# Altium schematic symbol library TE Connectivity.SchLib: 10 symbols
Pins are listed as number, name and electrical type; pins without a type are passive.

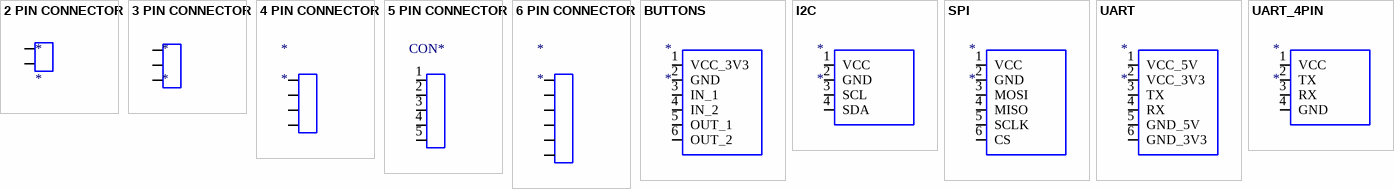
[diagram p0: symbols 2 PIN CONNECTOR to UART_4PIN]

## 2 PIN CONNECTOR
designator *
footprint JST SR SH 1.0 - 2pin
pins: 1, 2

## 3 PIN CONNECTOR
designator *
footprint JST XH 3
pins: 1, 2, 3

## 4 PIN CONNECTOR
designator *
footprint JST SR SH 1.0 - 4PIN
footprint JST SR SH 1.0 TOP - 4PIN
pins: 1, 2, 3, 4

## 5 PIN CONNECTOR
designator CON*  (value not drawn)
footprint JST XH 5
pins: 1, 2, 3, 4, 5

## 6 PIN CONNECTOR
designator *
footprint JST SR SH 1.0
footprint JST SR SH 1.0 TOP
pins: 1, 2, 3, 4, 5, 6

## BUTTONS
designator *
footprint 6PIN_280379-1
footprint JST SR SH 1.0
footprint JST SR SH 1.0 TOP
pins: 1 VCC_3V3, 2 GND, 3 IN_1, 4 IN_2, 5 OUT_1, 6 OUT_2

## I2C
designator *
footprint JST SR SH 1.0 TOP - 4PIN
footprint JST SR SH 1.0 - 4PIN
pins: 1 VCC, 2 GND, 3 SCL, 4 SDA

## SPI
designator *
footprint JST SR SH 1.0 TOP - 6PIN
footprint JST SR SH 1.0 - 6PIN
pins: 1 VCC, 2 GND, 3 MOSI, 4 MISO, 5 SCLK, 6 CS

## UART
designator *
footprint JST SR SH 1.0 - 6PIN
footprint JST SR SH 1.0 TOP - 6PIN
footprint 6PIN_280379-1
pins: 1 VCC_5V, 2 VCC_3V3, 3 TX, 4 RX, 5 GND_5V, 6 GND_3V3

## UART_4PIN
designator *
footprint JST SR SH 1.0 TOP - 4PIN
footprint JST SR SH 1.0 - 4PIN
pins: 1 VCC, 2 TX, 3 RX, 4 GND